# EAGLE library part 3V_LDO_REGULATOR (library MRDT-2015-General)
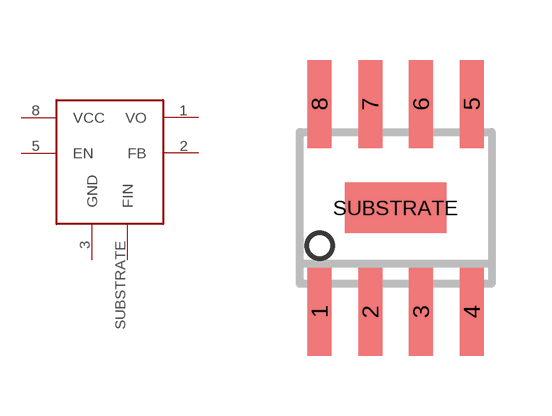
[diagram p13: symbol with the pads of SO8; footprint SO8]

Designator prefix -

## 3V_LDO_REGULATOR  [SO8]
1  VO
2  FB
3  GND
5  EN
8  VCC
SUBSTRATE  FIN

## Footprint SO8 (pad centres in mm)
8-Lead Small Outline IC (SO-8) Source: http://www.analog.com/UploadedFiles/Data_Sheets/703465986AD8611_2_0.pdf
smd 0.6 x 2.2: 1 -1.905,-2.6; 2 -0.635,-2.6; 3 0.635,-2.6; 4 1.905,-2.6; 5 1.905,2.6; 6 0.635,2.6; 7 -0.635,2.6; 8 -1.905,2.6
smd 2.54 x 1.27: SUBSTRATE 0,0